# Altium integrated library S1M.IntLib: 1 symbol
Pins are listed as number, name and electrical type; pins without a type are passive.

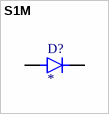
[diagram p0: symbol S1M]

## S1M
designator D?
1A, 1000V, Standard Recovery Rectifier; MP: S1M; MF: Taiwan Semiconductor; Price: None; Value: *; Package: SMA-2 Taiwan Semiconductor; Purchase-URL: https://pricing.snapeda.com/search/part/S1M/?ref=eda; SnapEDA_Link: https://www.snapeda.com/parts/S1M/Taiwan+Semiconductor/view-part/?ref=snap; Check_prices: https://www.snapeda.com/parts/S1M/Taiwan+Semiconductor/view-part/?ref=eda; Availability: In Stock
footprint DIOM4325X250N
pins: A, C K